# EAGLE library part ULN2003D1013TR (library ClintonLib)
Darlington pair array with internal inductive suppression diodes. Good for relay driving.
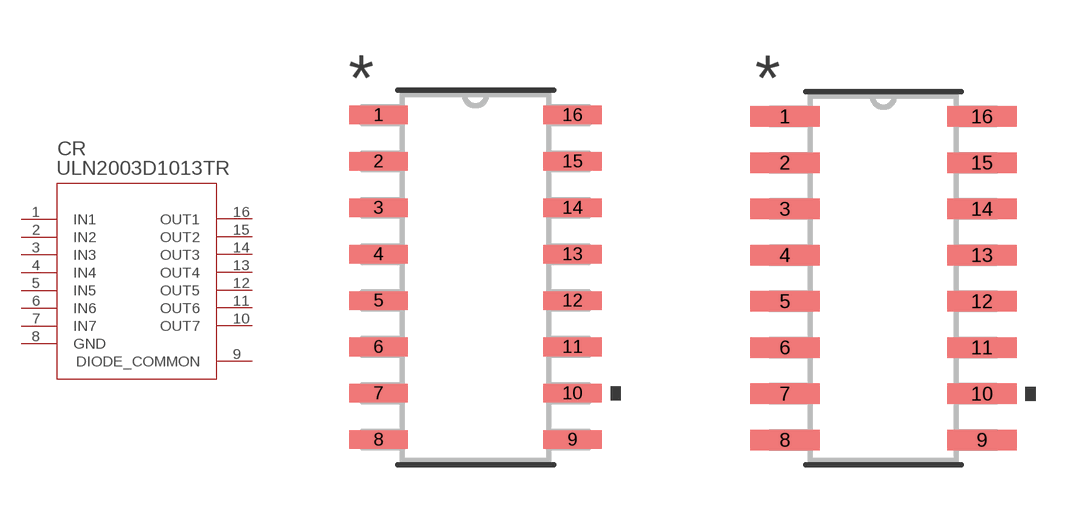
[diagram p20: symbol with the pads of SO-16; footprints SO-16, SO-16-M]

Designator prefix CR

## ULN2003D1013TR (MANUFACTURER_PART_NUMBER: ULN2003D1013TR; VENDOR: STMicroelectronics)  [SO-16]
1  IN1  in
2  IN2  in
3  IN3  in
4  IN4  in
5  IN5  in
6  IN6  in
7  IN7  in
8  GND  pwr
9  DIODE_COMMON  pas
10  OUT7  out
11  OUT6  out
12  OUT5  out
13  OUT4  out
14  OUT3  out
15  OUT2  out
16  OUT1  out

## ULN2003D1013TRSO-16-M (MANUFACTURER_PART_NUMBER: ULN2003D1013TR; VENDOR: STMicroelectronics)  [SO-16-M]
Pads as for SO-16

## ULN2003D1013TRSO-16-L (MANUFACTURER_PART_NUMBER: ULN2003D1013TR; VENDOR: STMicroelectronics)  [SO-16-L]
Pads as for SO-16

## Footprint SO-16 (pad centres in mm)
smd 1.6 x 0.508: 1 -2.654,4.445; 2 -2.654,3.175; 3 -2.654,1.905; 4 -2.654,0.635; 5 -2.654,-0.635; 6 -2.654,-1.905; 7 -2.654,-3.175; 8 -2.654,-4.445; 9 2.654,-4.445; 10 2.654,-3.175; 11 2.654,-1.905; 12 2.654,-0.635; 13 2.654,0.635; 14 2.654,1.905; 15 2.654,3.175; 16 2.654,4.445

## Footprint SO-16-M (pad centres in mm)
smd 1.905 x 0.559: 1 -2.705,4.445; 2 -2.705,3.175; 3 -2.705,1.905; 4 -2.705,0.635; 5 -2.705,-0.635; 6 -2.705,-1.905; 7 -2.705,-3.175; 8 -2.705,-4.445; 9 2.705,-4.445; 10 2.705,-3.175; 11 2.705,-1.905; 12 2.705,-0.635; 13 2.705,0.635; 14 2.705,1.905; 15 2.705,3.175; 16 2.705,4.445

## Footprint SO-16-L (pad centres in mm)
smd 1.295 x 0.457: 1 -2.603,4.445; 2 -2.603,3.175; 3 -2.603,1.905; 4 -2.603,0.635; 5 -2.603,-0.635; 6 -2.603,-1.905; 7 -2.603,-3.175; 8 -2.603,-4.445; 9 2.603,-4.445; 10 2.603,-3.175; 11 2.603,-1.905; 12 2.603,-0.635; 13 2.603,0.635; 14 2.603,1.905; 15 2.603,3.175; 16 2.603,4.445